# Altium footprint library Dorji.PcbLib: 1 footprints
Each footprint in its own frame and in the unit in brackets; x right, y up, seen from the top. Pads: shape width x height; smd on the part's side, far side on the other; paste and mask are expansions set on the pad; w line width, h text height; cw(c..) or ccw(c..) is an arc to the next point about the centre after c.
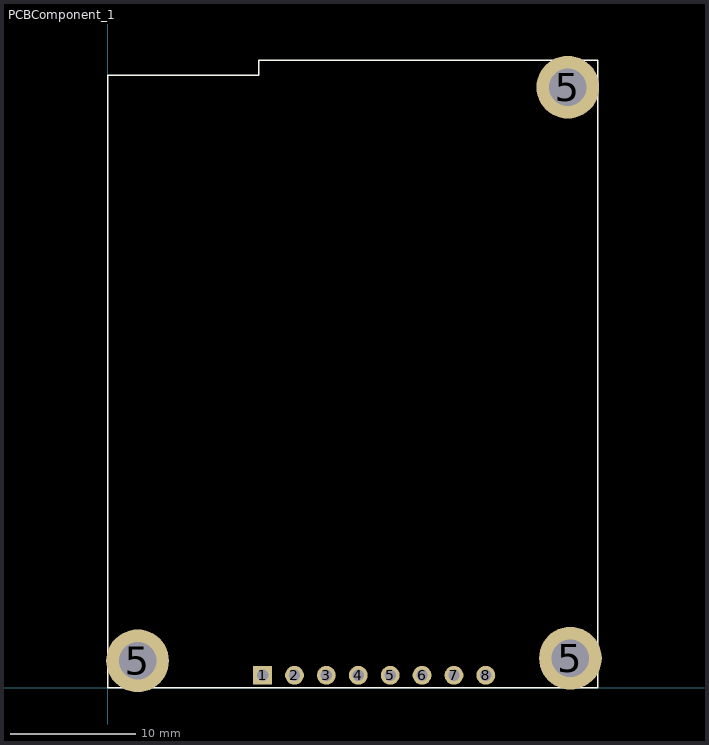
[diagram p0: the footprint, top view; thin cyan lines are the x and y axes]

## PCBComponent_1 [mm]
pads (11):
  rect 1.5x1.5 hole 0.9: 1(12.319,1)
  round 1.5 hole 0.9: 2(14.859,1) 3(17.399,1) 4(19.939,1) 5(22.479,1) 6(25.019,1) 7(27.559,1) 8(30.099,1)
  round 5 hole 3: 5(2.362,2.155) 5(36.631,47.84) 5(36.834,2.362)
Top Overlay:
  lines w0.127: 0.006,2.154 0.806,2.154 ; 2.356,0.005 2.356,0.605 ; 12,49.973 12,48.8 0,48.8 0,0 39,0 39,50 12,50